# EAGLE library part 74HC4040D,652 (library NXP_By_element14_Batch_1)
12-stage binary ripple counter
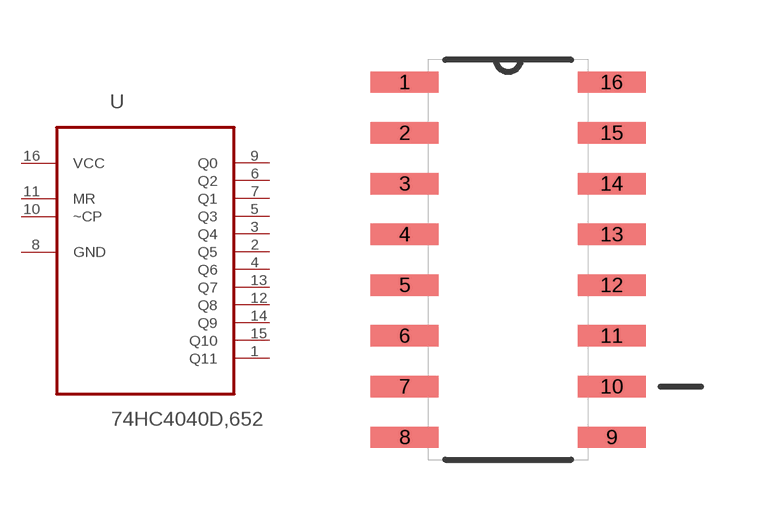
[diagram p90: symbol with the pads of SOIC127P600X175-16N; footprint SOIC127P600X175-16N]

Designator prefix U

## 74HC4040D,652 (MPN: 74HC4040D,652; OC_FARNELL: 1826575; OC_NEWARK: 71R2477; P1I: o; PACKAGE: SO-16; SUPPLIER: NXP)  [SOIC127P600X175-16N]
1  Q11  out
2  Q5  out
3  Q4  out
4  Q6  out
5  Q3  out
6  Q2  out
7  Q1  out
8  GND  pas
9  Q0  out
10  ~CP  in
11  MR  in
12  Q8  out
13  Q7  out
14  Q9  out
15  Q10  out
16  VCC  pwr

## Footprint SOIC127P600X175-16N (pad centres in mm)
smd 1.702 x 0.533: 1 -2.591,4.445; 2 -2.591,3.175; 3 -2.591,1.905; 4 -2.591,0.635; 5 -2.591,-0.635; 6 -2.591,-1.905; 7 -2.591,-3.175; 8 -2.591,-4.445; 9 2.591,-4.445; 10 2.591,-3.175; 11 2.591,-1.905; 12 2.591,-0.635; 13 2.591,0.635; 14 2.591,1.905; 15 2.591,3.175; 16 2.591,4.445